# EAGLE library part AD8510 (library analog-devices)
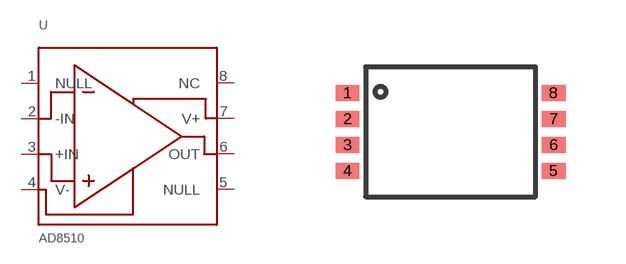
[diagram p33: symbol with the pads of MSOP8; footprint MSOP8]

Designator prefix -

## AD8510  [MSOP8]
1  NULL
2  -IN
3  +IN
4  V-
5  NULL
6  OUT
7  V+
8  NC

## Footprint MSOP8 (pad centres in mm)
smd 0.6 x 0.4: 1 -2.575,0.975; 2 -2.575,0.325; 3 -2.575,-0.325; 4 -2.575,-0.975; 5 2.575,-0.975; 6 2.575,-0.325; 7 2.575,0.325; 8 2.575,0.975